# EAGLE library part SN74LVC1G139 (library LAB-PPS330D)
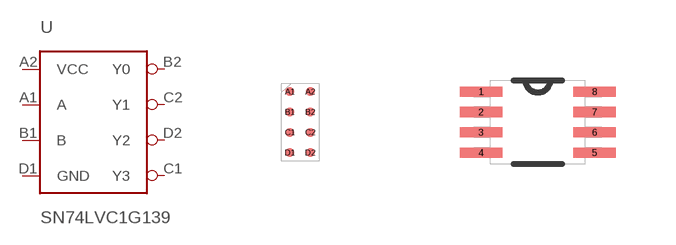
[diagram p2: symbol with the pads of BGA8C50P2X4_190X90X50; footprints BGA8C50P2X4_190X90X50, SOP50P310X90-8N]

Designator prefix -

## SN74LVC1G139YZP  [BGA8C50P2X4_190X90X50]
A1  A
A2  VCC
B1  B
B2  Y0
C1  Y3
C2  Y1
D1  GND
D2  Y2

## SN74LVC1G139DCU  [SOP50P310X90-8N]
1  A
2  B
3  Y3
4  GND
5  Y2
6  Y1
7  Y0
8  VCC

## Footprint BGA8C50P2X4_190X90X50 (pad centres in mm)
smd 0.229 x 0.229: A1 -0.254,0.762; A2 0.254,0.762; B1 -0.254,0.254; B2 0.254,0.254; C1 -0.254,-0.254; C2 0.254,-0.254; D1 -0.254,-0.762; D2 0.254,-0.762

## Footprint SOP50P310X90-8N (pad centres in mm)
smd 1.067 x 0.254: 1 -1.422,0.762; 2 -1.422,0.254; 3 -1.422,-0.254; 4 -1.422,-0.762; 5 1.422,-0.762; 6 1.422,-0.254; 7 1.422,0.254; 8 1.422,0.762